# Altium footprint library B22AP.PcbLib: 1 footprints
Each footprint in its own frame and in the unit in brackets; x right, y up, seen from the top. Pads: shape width x height; smd on the part's side, far side on the other; paste and mask are expansions set on the pad; w line width, h text height; cw(c..) or ccw(c..) is an arc to the next point about the centre after c.
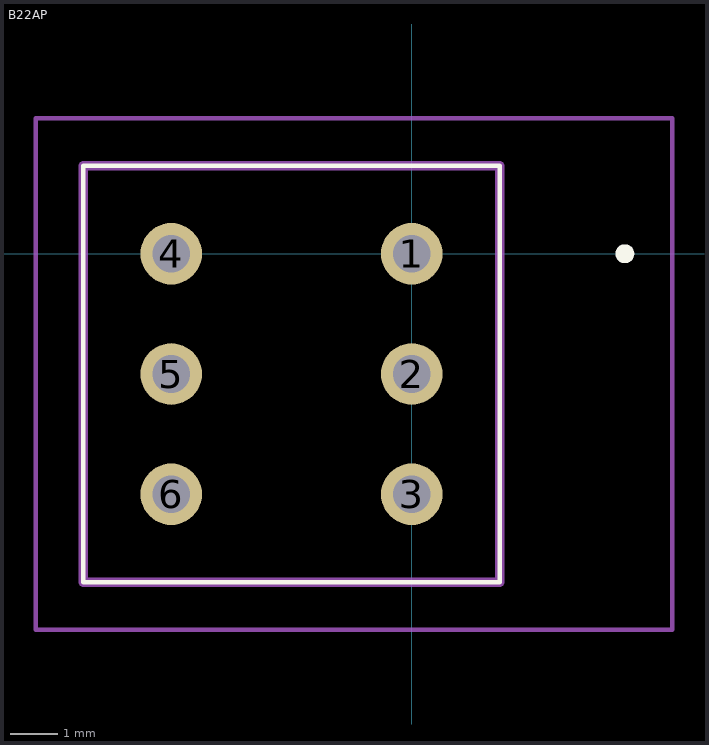
[diagram p0: the footprint, top view; thin cyan lines are the x and y axes]

## B22AP [mm]
pads (6):
  round 1.3 hole 0.8: 1(0,0) 2(0,-2.54) 3(0,-5.08) 4(-5.08,0) 5(-5.08,-2.54) 6(-5.08,-5.08)
Top Overlay:
  lines w0.1: -6.94,-6.94 1.86,-6.94 1.86,1.86 -6.94,1.86 -6.94,-6.94
  lines w0.2: 4.4,0 4.4,0 ; 4.4,0 ccw(c4.5,0) 4.6,0 ; 4.4,0 cw(c4.5,0) 4.6,0 ; 4.4,0 4.4,0 ; 4.4,0 ccw(c4.5,0) 4.6,0 ; 4.6,0 4.6,0
Mechanical 15:
  lines w0.2: -6.94,-6.94 1.86,-6.94 1.86,1.86 -6.94,1.86 -6.94,-6.94
Mechanical 20:
  lines w0.1: -7.94,-7.94 5.5,-7.94 ; -7.94,-7.94 -7.94,2.86 ; -7.94,-7.94 5.5,-7.94 ; -7.94,-7.94 -7.94,2.86 ; -7.94,2.86 5.5,2.86 ; -7.94,2.86 5.5,2.86 ; 5.5,-7.94 5.5,2.86 ; 5.5,-7.94 5.5,2.86